# EAGLE library part 87368-14 (library con-molex-milli-grid)
RECEPTACAL
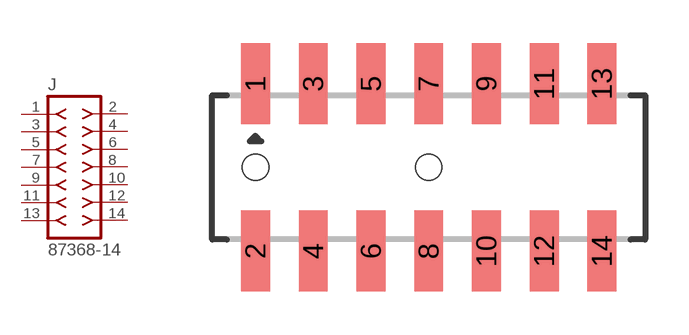
[diagram p186: symbol with the pads of 87368-14; footprint 87368-14]

Designator prefix J

## 87368-14  [87368-14]
1  1  pas
2  2  pas
3  3  pas
4  4  pas
5  5  pas
6  6  pas
7  7  pas
8  8  pas
9  9  pas
10  10  pas
11  11  pas
12  12  pas
13  13  pas
14  14  pas

## Footprint 87368-14 (pad centres in mm)
RECEPTACAL SMD Dual Row, Side Entry
smd 1 x 2.8: 1 -6,2.9; 2 -6,-2.9; 3 -4,2.9; 4 -4,-2.9; 5 -2,2.9; 6 -2,-2.9; 7 0,2.9; 8 0,-2.9; 9 2,2.9; 10 2,-2.9; 11 4,2.9; 12 4,-2.9; 13 6,2.9; 14 6,-2.9
hole 0.914 at -6,0
hole 0.914 at 0,0